# Altium footprint library INF-PG-TO-218-3.PcbLib: 1 footprints
Each footprint in its own frame and in the unit in brackets; x right, y up, seen from the top. Pads: shape width x height; smd on the part's side, far side on the other; paste and mask are expansions set on the pad; w line width, h text height; cw(c..) or ccw(c..) is an arc to the next point about the centre after c.
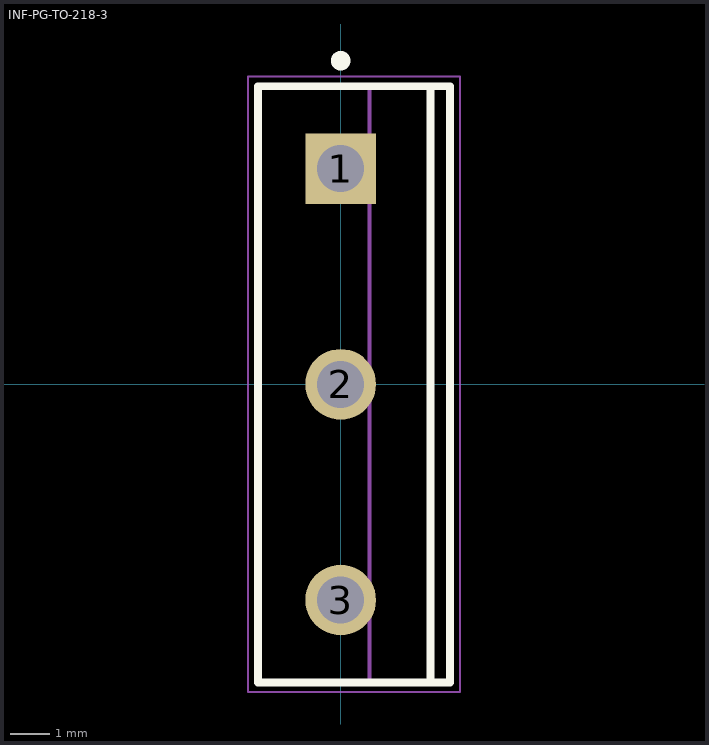
[diagram p0: the footprint, top view; thin cyan lines are the x and y axes]

## INF-PG-TO-218-3 [mm] "FM, 3-Leads, Body 15x4.9mm, Pitch 5.5mm"
height 22.5
pads (3):
  rect 1.8x1.8 hole 1.2: 1(0,5.5)
  round 1.8 hole 1.2: 2(0,0) 3(0,-5.5)
Top Overlay:
  circle w0.25: c0,8.25 r0.125
  lines w0.2: 2.29,-7.6 2.29,7.6 ; -2.11,-7.6 2.79,-7.6 2.79,7.6 -2.11,7.6 -2.11,-7.6
Mechanical 13:
  lines w0.1: 0.74,-7.6 0.74,7.6 ; -2.11,-7.6 -2.11,7.6 2.79,7.6 2.79,-7.6 -2.11,-7.6
Mechanical 15:
  lines w0.05: -2.36,-7.85 -2.36,7.85 3.04,7.85 3.04,-7.85 -2.36,-7.85
  lines w0.1: -0.5,0 0.5,0 ; 0,-0.5 0,0.5
3D body: height 1, standoff 0, extent -0.29,4.85 0.29,6.15
3D body: height 0, standoff -1.6, extent -0.29,4.95 0.29,6.05
3D body: height 1, standoff 0, extent -0.29,-0.65 0.29,0.65
3D body: height 0, standoff -1.6, extent -0.29,-0.55 0.29,0.55
3D body: height 1, standoff 0, extent -0.29,-6.15 0.29,-4.85
3D body: height 0, standoff -1.6, extent -0.29,-6.05 0.29,-4.95
3D body: height 14.85, standoff 1, extent -2.11,-7.6 2.79,7.6
3D body: height 16.45, standoff 14.85, extent 0.74,-7.5 2.79,7.5
3D body: height 16.49, standoff 16.45, extent 0.74,0.4 2.79,7.5
3D body: height 16.49, standoff 16.45, extent 0.74,-7.5 2.79,-0.4
3D body: height 20.55, standoff 20.51, extent 0.74,0.4 2.79,7.5
3D body: height 20.55, standoff 20.51, extent 0.74,-7.5 2.79,-0.4
3D body: height 16.61, standoff 16.49, extent 0.74,0.784 2.79,7.5
3D body: height 16.61, standoff 16.49, extent 0.74,-7.5 2.79,-0.785
3D body: height 20.52, standoff 20.39, extent 0.74,0.784 2.79,7.5
3D body: height 20.52, standoff 20.39, extent 0.74,-7.5 2.79,-0.785
3D body: height 16.8, standoff 16.61, extent 0.74,1.139 2.79,7.5
3D body: height 16.8, standoff 16.61, extent 0.74,-7.5 2.79,-1.139
3D body: height 20.4, standoff 20.2, extent 0.74,1.139 2.79,7.5
3D body: height 20.4, standoff 20.2, extent 0.74,-7.5 2.79,-1.139
3D body: height 17.06, standoff 16.8, extent 0.74,1.45 2.79,7.5
3D body: height 17.06, standoff 16.8, extent 0.74,-7.5 2.79,-1.45
3D body: height 20.21, standoff 19.95, extent 0.74,1.45 2.79,7.5
3D body: height 20.21, standoff 19.95, extent 0.74,-7.5 2.79,-1.45
3D body: height 17.37, standoff 17.05, extent 0.74,1.705 2.79,7.5
3D body: height 17.37, standoff 17.05, extent 0.74,-7.5 2.79,-1.705
3D body: height 19.95, standoff 19.64, extent 0.74,1.705 2.79,7.5
3D body: height 19.95, standoff 19.64, extent 0.74,-7.5 2.79,-1.705
3D body: height 17.72, standoff 17.36, extent 0.74,1.894 2.79,7.5
3D body: height 17.72, standoff 17.36, extent 0.74,-7.5 2.79,-1.894
3D body: height 19.64, standoff 19.28, extent 0.74,1.894 2.79,7.5
3D body: height 19.64, standoff 19.28, extent 0.74,-7.5 2.79,-1.894
3D body: height 18.11, standoff 17.72, extent 0.74,2.011 2.79,7.5
3D body: height 18.11, standoff 17.72, extent 0.74,-7.5 2.79,-2.011
3D body: height 19.29, standoff 18.9, extent 0.74,2.011 2.79,7.5
3D body: height 19.29, standoff 18.9, extent 0.74,-7.5 2.79,-2.011
3D body: height 18.5, standoff 18.1, extent 0.74,2.05 2.79,7.5
3D body: height 18.5, standoff 18.1, extent 0.74,-7.5 2.79,-2.05
3D body: height 18.9, standoff 18.5, extent 0.74,2.05 2.79,7.5
3D body: height 18.9, standoff 18.5, extent 0.74,-7.5 2.79,-2.05
3D body: height 22.5, standoff 20.55, extent 0.74,-7.5 2.79,7.5